# EAGLE library part CON-LSTB_MA08-1 (library ATMEGA328_SUBSYSTEM)
PIN HEADER
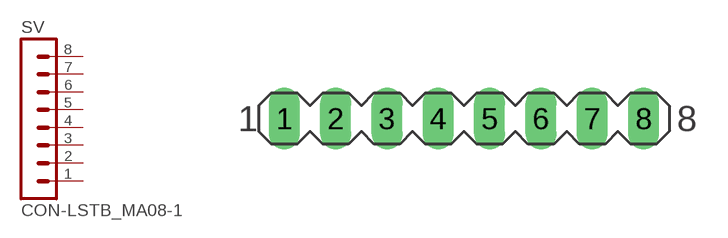
[diagram p1: symbol with the pads of CON-LSTB_MA08-1; footprint CON-LSTB_MA08-1]

Designator prefix SV

## CON-LSTB_MA08-1 (OC_FARNELL: unknown; OC_NEWARK: unknown)  [CON-LSTB_MA08-1]
1  1  pas
2  2  pas
3  3  pas
4  4  pas
5  5  pas
6  6  pas
7  7  pas
8  8  pas

## Footprint CON-LSTB_MA08-1 (pad centres in mm)
PIN HEADER
drill 1.016 long: 1 -8.89,0; 2 -6.35,0; 3 -3.81,0; 4 -1.27,0; 5 1.27,0; 6 3.81,0; 7 6.35,0; 8 8.89,0